# Altium footprint library LQFN36-4x7x0.94.PcbLib: 1 footprints
Each footprint in its own frame and in the unit in brackets; x right, y up, seen from the top. Pads: shape width x height; smd on the part's side, far side on the other; paste and mask are expansions set on the pad; w line width, h text height; cw(c..) or ccw(c..) is an arc to the next point about the centre after c.
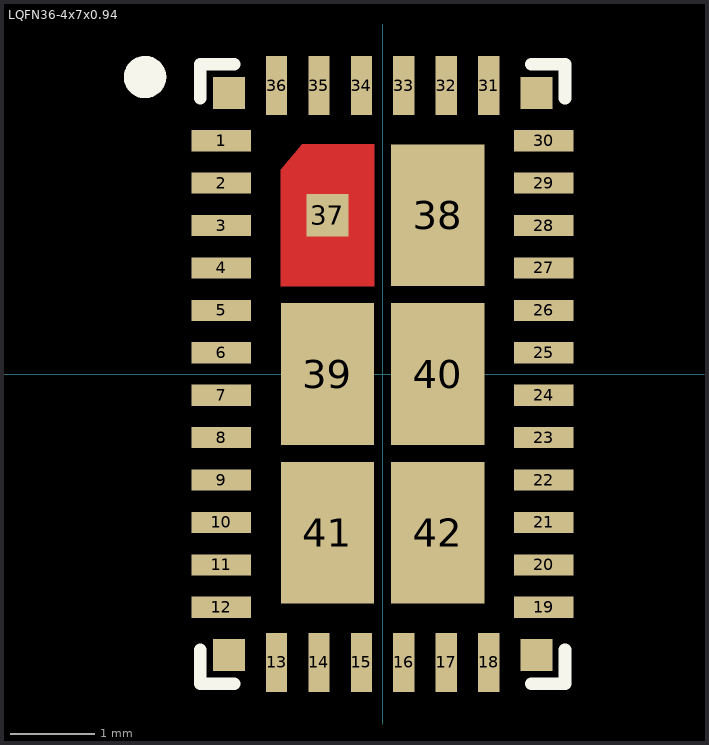
[diagram p0: the footprint, top view; thin cyan lines are the x and y axes]

## LQFN36-4x7x0.94 [mm] "LQFN, 36-Leads, Body 4,00x7,00mm, Pitch 0,50mm, Thermal Pad, IPC Medium Density"
height 0.94
pads (46):
  rect 0.7x0.25 smd: 1(-1.9,2.75) 2(-1.9,2.25) 3(-1.9,1.75) 4(-1.9,1.25) 5(-1.9,0.75) 6(-1.9,0.25) 7(-1.9,-0.25) 8(-1.9,-0.75) 9(-1.9,-1.25) 10(-1.9,-1.75) 11(-1.9,-2.25) 12(-1.9,-2.75) 19(1.9,-2.75) 20(1.9,-2.25) 21(1.9,-1.75) 22(1.9,-1.25) 23(1.9,-0.75) 24(1.9,-0.25) 25(1.9,0.25) 26(1.9,0.75) 27(1.9,1.25) 28(1.9,1.75) 29(1.9,2.25) 30(1.9,2.75)
  rect 0.25x0.7 smd: 13(-1.25,-3.4) 14(-0.75,-3.4) 15(-0.25,-3.4) 16(0.25,-3.4) 17(0.75,-3.4) 18(1.25,-3.4) 31(1.25,3.4) 32(0.75,3.4) 33(0.25,3.4) 34(-0.25,3.4) 35(-0.75,3.4) 36(-1.25,3.4)
  rect 0.5x0.5 smd: 37(-0.65,1.87)
  rect 1.1x1.67 smd: 38(0.65,1.87) 39(-0.65,0) 40(0.65,0) 41(-0.65,-1.87) 42(0.65,-1.87)
  rect 0.375x0.375 smd: ""(-1.813,-3.313) ""(-1.813,3.313) ""(1.813,-3.313) ""(1.813,3.313)
Top Layer:
  region: -0.95,2.705 -1.2,2.405 -1.2,1.035 -0.1,1.035 -0.1,2.705
Top Overlay:
  circle w0.25: c-2.8,3.5 r0.125
  lines w0.15: -2.15,-3.25 -2.15,-3.65 -1.75,-3.65 ; -2.15,3.25 -2.15,3.65 -1.75,3.65 ; 1.75,-3.65 2.15,-3.65 2.15,-3.25 ; 1.75,3.65 2.15,3.65 2.15,3.25
3D body "LQFN36-4x7x0.94.step": height 0.94, standoff 0, extent -2.01,-3.51 2.01,3.51